# Altium footprint library PcbLib1.PcbLib: 42 footprints (part 1 of 3)
Each footprint in its own frame and in the unit in brackets; x right, y up, seen from the top. Pads: shape width x height; smd on the part's side, far side on the other; paste and mask are expansions set on the pad; w line width, h text height; cw(c..) or ccw(c..) is an arc to the next point about the centre after c.
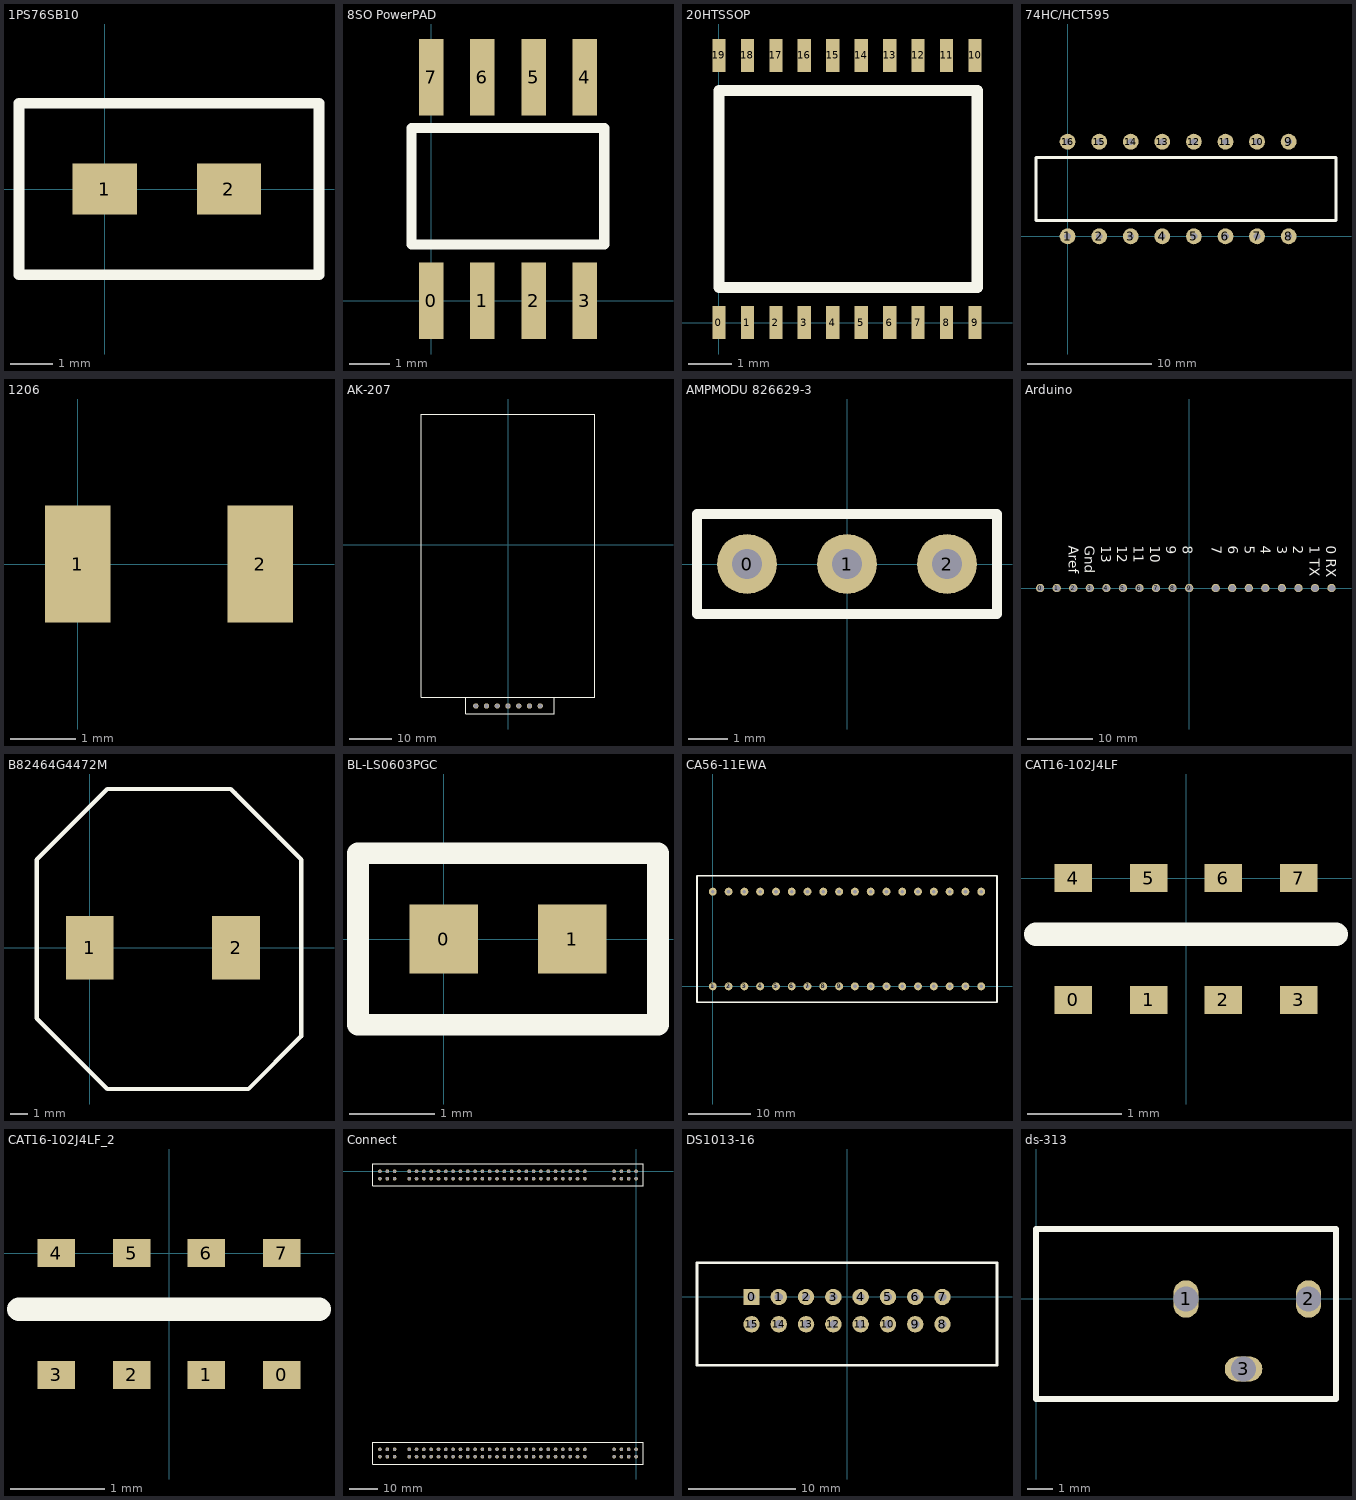
[diagram p0: the footprints below, top view; thin cyan lines are the x and y axes]

## 1PS76SB10 [mm]
pads (2):
  rect 1.5x1.2 smd mask+0.05: 1(0,0) 2(2.9,0)
Top Overlay:
  lines w0.254: -2,-2 -2,2 5,2 5,-2 -2,-2

## 8SO PowerPAD [mm]
pads (8):
  rect 0.61x1.91 smd mask+0.05: 0(0,0) 1(1.27,0) 2(2.54,0) 3(3.81,0) 4(3.81,5.56) 5(2.54,5.56) 6(1.27,5.56) 7(0,5.56)
Top Overlay:
  lines w0.254: -0.5,1.4 -0.5,4.3 1.9,4.3 4.3,4.3 4.3,1.4 -0.5,1.4

## 20HTSSOP [mm]
pads (20):
  rect 0.3x0.75 smd mask+0.05: 0(0,0) 1(0.65,0) 2(1.3,0) 3(1.95,0) 4(2.6,0) 5(3.25,0) 6(3.9,0) 7(4.55,0) 8(5.2,0) 9(5.85,0) 10(5.85,6.1) 11(5.2,6.1) 12(4.55,6.1) 13(3.9,6.1) 14(3.25,6.1) 15(2.6,6.1) 16(1.95,6.1) 17(1.3,6.1) 18(0.65,6.1) 19(0,6.1)
Top Overlay:
  lines w0.254: 0,0.8 0,5.3 5.9,5.3 5.9,0.8 0,0.8

## 74HC/HCT595 [mm]
pads (16):
  round 1.27 / inner rect 0.8x2.54 / far side round 1.27 hole 0.54 square: 1(0,0) 2(2.54,0) 3(5.08,0) 4(7.62,0) 5(10.16,0) 6(12.7,0) 7(15.24,0) 8(17.78,0) 9(17.78,7.62) 10(15.24,7.62) 11(12.7,7.62) 12(10.16,7.62) 13(7.62,7.62) 14(5.08,7.62) 15(2.54,7.62) 16(0,7.62)
Top Overlay:
  lines w0.254: -2.54,1.27 -2.54,6.35 21.59,6.35 21.59,1.27 -2.54,1.27

## 1206 [mm]
pads (2):
  rect 1x1.8 smd mask+0.05: 1(0,0) 2(2.8,0)

## AK-207 [mm]
pads (7):
  round 1.27 / inner round 1.524 / far side round 1.27 hole 1: 1(-7.62,-38.1) 2(-5.08,-38.1) 3(-2.54,-38.1) 4(0,-38.1) 5(2.54,-38.1) 6(5.08,-38.1) 7(7.62,-38.1)
Top Overlay:
  lines w0.254: -10,-36 -10,-40 11,-40 11,-36 ; -20.5,-36 20.5,-36 20.5,31 -20.5,31 -20.5,-20.5 -20.5,-36

## AMPMODU 826629-3 [mil] "Гребенка"
pads (3):
  round 60 hole 30: 0(-100,0) 1(0,0) 2(100,0)
Top Overlay:
  lines w10: -150,-50 -150,50 150,50 150,-50 -150,-50

## Arduino [mm]
pads (18):
  round 1.27 / inner rect 1.27x1.27 / far side round 1.27 hole 1 mask+0.05: 0(-22.86,0) 1(-20.32,0) 2(-17.78,0) 3(-15.24,0) 4(-12.7,0) 5(-10.16,0) 6(-7.62,0) 7(-5.08,0) 8(-2.54,0) 9(0,0) 10(4.064,0) 11(6.604,0) 12(9.144,0) 13(11.684,0) 14(14.224,0) 15(16.764,0) 16(19.304,0) 17(21.844,0)
Top Overlay:
  text "Aref" at -18.5,6.5 h1.52
  text "Gnd" at -16,6.5 h1.52
  text "13" at -13.5,6.5 h1.52
  text "12" at -11,6.5 h1.52
  text "11" at -8.5,6.5 h1.52
  text "10" at -6,6.5 h1.52
  text "9" at -3.5,6.5 h1.52
  text "8" at -1,6.5 h1.52
  text "7" at 3.5,6.5 h1.52
  text "6" at 6,6.5 h1.52
  text "5" at 8.5,6.5 h1.52
  text "4" at 11,6.5 h1.52
  text "3" at 13.5,6.5 h1.52
  text "2" at 16,6.5 h1.52
  text "1 TX" at 18.5,6.5 h1.52
  text "0 RX" at 21,6.5 h1.52

## B82464G4472M [mm]
pads (2):
  rect 2.7x3.6 smd mask+0.05: 1(0,0) 2(8.3,0)
Top Overlay:
  lines w0.254: -3,-4 -3,5 1,9 8,9 8.25,8.75 10.75,6.25 12,5 12,-5 9,-8 1,-8 -3,-4

## BL-LS0603PGC [mm]
pads (2):
  rect 0.8x0.8 smd: 0(0,0) 1(1.5,0)
Top Overlay:
  lines w0.254: -1,-1 -1,1 2.5,1 2.5,-1 -1,-1

## CA56-11EWA [mm]
pads (36):
  round 1.27 / inner rect 0.8x2.54 / far side round 1.27 hole 0.6: 1(0,0) 2(2.54,0) 3(5.08,0) 4(7.62,0) 5(10.16,0) 6(12.7,0) 7(15.24,0) 8(17.78,0) 9(20.32,0) 10(22.86,0) 11(25.4,0) 12(27.94,0) 13(30.48,0) 14(33.02,0) 15(35.56,0) 16(38.1,0) 17(40.64,0) 18(43.18,0) 19(43.18,15.24) 20(40.64,15.24) 21(38.1,15.24) 22(35.56,15.24) 23(33.02,15.24) 24(30.48,15.24) 25(27.94,15.24) 26(25.4,15.24) 27(22.86,15.24) 28(20.32,15.24) 29(17.78,15.24) 30(15.24,15.24) 31(12.7,15.24) 32(10.16,15.24) 33(7.62,15.24) 34(5.08,15.24) 35(2.54,15.24) 36(0,15.24)
Top Overlay:
  lines w0.254: -2.54,-2.54 -2.54,17.78 45.72,17.78 45.72,-2.54 -2.54,-2.54

## CAT16-102J4LF [mm]
pads (8):
  rect 0.4x0.3 smd mask+0.05: 0(-1.2,-1.3) 1(-0.4,-1.3) 2(0.4,-1.3) 3(1.2,-1.3) 4(-1.2,0) 5(-0.4,0) 6(0.4,0) 7(1.2,0)
Top Overlay:
  lines w0.254: -1.6,-0.6 1.6,-0.6 -1.6,-0.6

## CAT16-102J4LF_2 [mm]
pads (8):
  rect 0.4x0.3 smd mask+0.05: 0(1.2,-1.3) 1(0.4,-1.3) 2(-0.4,-1.3) 3(-1.2,-1.3) 4(-1.2,0) 5(-0.4,0) 6(0.4,0) 7(1.2,0)
Top Overlay:
  lines w0.254: -1.6,-0.6 1.6,-0.6 -1.6,-0.6

## Connect [mm]
pads (128):
  round 1.27 / inner rect 0.8x2.54 / far side round 1.27 hole 1: 1(-88.9,0) 2(-86.36,0) 3(-83.82,0) 4(-78.74,0) 5(-76.2,0) 6(-73.66,0) 7(-71.12,0) 8(-68.58,0) 9(-66.04,0) 10(-63.5,0) 11(-60.96,0) 12(-58.42,0) 13(-55.88,0) 14(-53.34,0) 15(-50.8,0) 16(-48.26,0) 17(-45.72,0) 18(-43.18,0) 19(-40.64,0) 20(-38.1,0) 21(-35.56,0) 22(-33.02,0) 23(-30.48,0) 24(-27.94,0) 25(-25.4,0) 26(-22.86,0) 27(-20.32,0) 28(-17.78,0) 29(-7.62,0) 30(-5.08,0) 31(-2.54,0) 32(0,0) 33(0,-2.54) 34(-2.54,-2.54) 35(-5.08,-2.54) 36(-7.62,-2.54) 37(-17.78,-2.54) 38(-20.32,-2.54) 39(-22.86,-2.54) 40(-25.4,-2.54) 41(-27.94,-2.54) 42(-30.48,-2.54) 43(-33.02,-2.54) 44(-35.56,-2.54) 45(-38.1,-2.54) 46(-40.64,-2.54) 47(-43.18,-2.54) 48(-45.72,-2.54) 49(-48.26,-2.54) 50(-50.8,-2.54) 51(-53.34,-2.54) 52(-55.88,-2.54) 53(-58.42,-2.54) 54(-60.96,-2.54) 55(-63.5,-2.54) 56(-66.04,-2.54) 57(-68.58,-2.54) 58(-71.12,-2.54) 59(-73.66,-2.54) 60(-76.2,-2.54) 61(-78.74,-2.54) 62(-83.82,-2.54) 63(-86.36,-2.54) 64(-88.9,-2.54) 65(-88.9,-96.52) 66(-86.36,-96.52) 67(-83.82,-96.52) 68(-78.74,-96.52) 69(-76.2,-96.52) 70(-73.66,-96.52) 71(-71.12,-96.52) 72(-68.58,-96.52) 73(-66.04,-96.52) 74(-63.5,-96.52) 75(-60.96,-96.52) 76(-58.42,-96.52) 77(-55.88,-96.52) 78(-53.34,-96.52) 79(-50.8,-96.52) 80(-48.26,-96.52) 81(-45.72,-96.52) 82(-43.18,-96.52) 83(-40.64,-96.52) 84(-38.1,-96.52) 85(-35.56,-96.52) 86(-33.02,-96.52) 87(-30.48,-96.52) 88(-27.94,-96.52) 89(-25.4,-96.52) 90(-22.86,-96.52) 91(-20.32,-96.52) 92(-17.78,-96.52) 93(-7.62,-96.52) 94(-5.08,-96.52) 95(-2.54,-96.52) 96(0,-96.52) 97(0,-99.06) 98(-2.54,-99.06) 99(-5.08,-99.06) 100(-7.62,-99.06) 101(-17.78,-99.06) 102(-20.32,-99.06) 103(-22.86,-99.06) 104(-25.4,-99.06) 105(-27.94,-99.06) 106(-30.48,-99.06) 107(-33.02,-99.06) 108(-35.56,-99.06) 109(-38.1,-99.06) 110(-40.64,-99.06) 111(-43.18,-99.06) 112(-45.72,-99.06) 113(-48.26,-99.06) 114(-50.8,-99.06) 115(-53.34,-99.06) 116(-55.88,-99.06) 117(-58.42,-99.06) 118(-60.96,-99.06) 119(-63.5,-99.06) 120(-66.04,-99.06) 121(-68.58,-99.06) 122(-71.12,-99.06) 123(-73.66,-99.06) 124(-76.2,-99.06) 125(-78.74,-99.06) 126(-83.82,-99.06) 127(-86.36,-99.06) 128(-88.9,-99.06)
Top Overlay:
  lines w0.254: -91.44,-101.6 2.54,-101.6 2.54,-93.98 -91.44,-93.98 -91.44,-101.6 ; -91.44,-5.08 2.54,-5.08 2.54,2.54 -91.44,2.54 -91.44,-5.08

## DS1013-16 [mil]
pads (16):
  rect 60x60 hole 30: 0(-350,0)
  round 60 hole 30: 1(-250,0) 2(-150,0) 3(-50,0) 4(50,0) 5(150,0) 6(250,0) 7(350,0) 8(350,-100) 9(250,-100) 10(150,-100) 11(50,-100) 12(-50,-100) 13(-150,-100) 14(-250,-100) 15(-350,-100)
Top Overlay:
  lines w10: -550,-250 550,-250 550,125 -550,125 -550,-250

## ds-313 [mm]
pads (3):
  oval 1x1.5 / inner round 1.524 / far side oval 1x1.5 hole 1: 1(6,0) 2(10.9,0)
  oval 1.5x1 / inner round 1.524 / far side oval 1.5x1 hole 1: 3(8.3,-2.8)
Top Overlay:
  lines w0.254: 0,-4 0,2.8 12,2.8 12,-4 0,-4